# EAGLE library part PCMF1HDMI2S (library PCMFXHDMI2S)
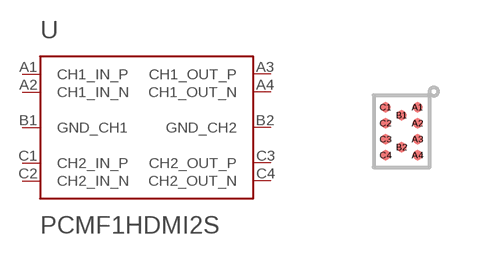
[diagram p0: symbol with the pads of WLCSP10; footprint WLCSP10]

Designator prefix U

## PCMF1HDMI2S  [WLCSP10]
A1  CH1_IN_P
A2  CH1_IN_N
A3  CH1_OUT_P
A4  CH1_OUT_N
B1  GND_CH1  pwr
B2  GND_CH2  pwr
C1  CH2_IN_P
C2  CH2_IN_N
C3  CH2_OUT_P
C4  CH2_OUT_N

## Footprint WLCSP10 (pad centres in mm)
smd 0.25 x 0.25: A1 0.4,0.6; A2 0.4,0.2; A3 0.4,-0.2; A4 0.4,-0.6; B1 0,0.4; B2 0,-0.4; C1 -0.4,0.6; C2 -0.4,0.2; C3 -0.4,-0.2; C4 -0.4,-0.6